# Altium schematic symbol library TRANS-NPN-BCE.SCHLIB: 1 symbol
Pins are listed as number, name and electrical type; pins without a type are passive.

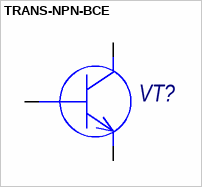
[diagram p0: symbol TRANS-NPN-BCE]

## TRANS-NPN-BCE
designator VT?
pins: 1 B, 2 C, 3 E